# Altium schematic symbol library Components.SchLib: 10 symbols
Pins are listed as number, name and electrical type; pins without a type are passive.

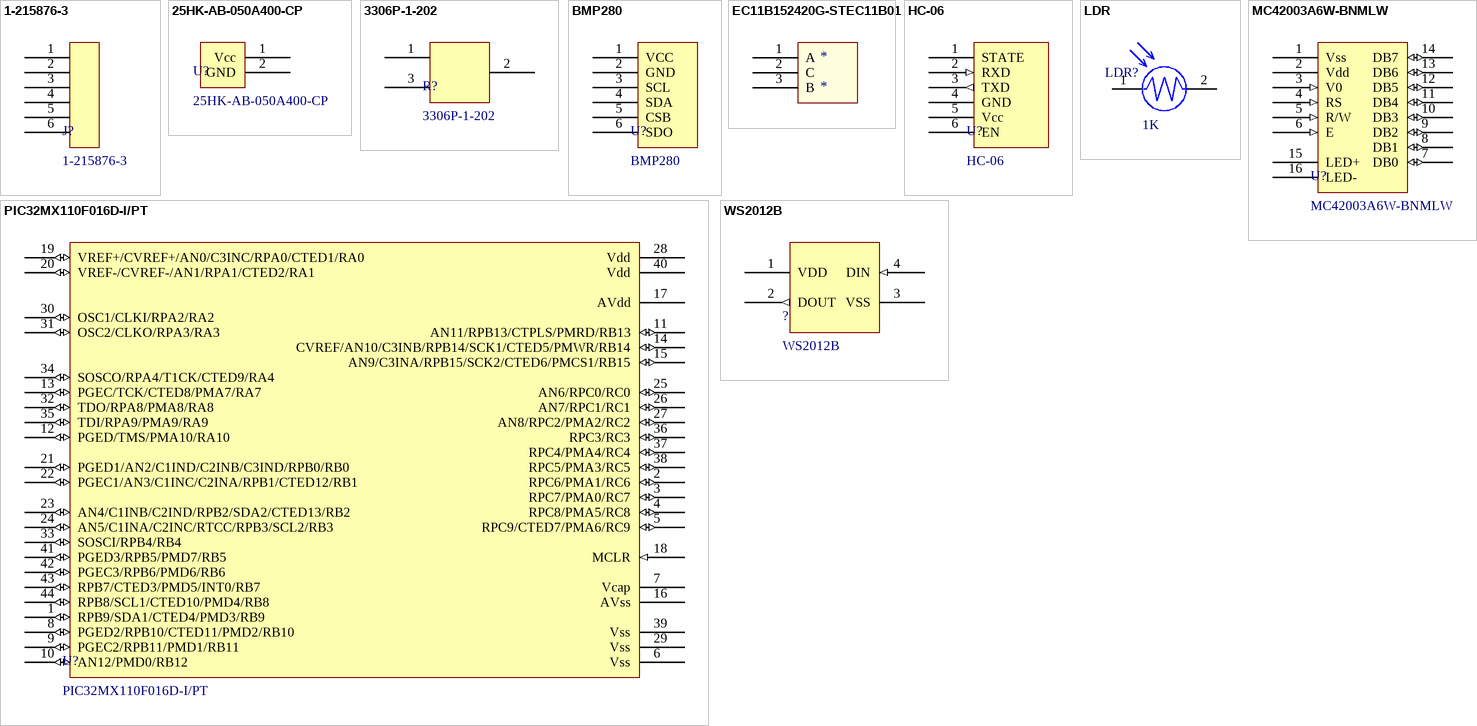
[diagram p0: symbols 1-215876-3 to WS2012B]

## 1-215876-3
designator J?
Tyco 1-215876-3
pins: 1, 2, 3, 4, 5, 6

## 25HK-AB-050A400-CP
designator U?
Power adapter; RefFournisseur: 2334613; Fabricant: IDEAL POWER; Fournisseur: Farnell; RefFabricant: 25HK-AB-050A400-CP
pins: 1 Vcc (power), 2 GND (power)

## 3306P-1-202
designator R?
Trimpot
footprint 3306P-1-202
pins: 1 (power), 2 (power), 3 (power)

## BMP280
designator U?
Temp. sensor
pins: 1 VCC (power), 2 GND (power), 3 SCL (oc), 4 SDA (oc), 5 CSB (power), 6 SDO (power)

## EC11B152420G-STEC11B01
designator *
Rotary encoder
footprint EC11B152420G-STEC11B01
pins: 1 A, 2 C, 3 B

## HC-06
designator U?
Bluetooth
pins: 1 STATE, 2 RXD (in), 3 TXD (out), 4 GND (power), 5 Vcc (power), 6 EN

## LDR
designator LDR?  value 1K  (hidden comment: LDR)
Photoresistor
pins: 1 (power), 2 (power)

## MC42003A6W-BNMLW
designator U?
LCD
footprint MC42004A6W-BNMLW
pins: 1 Vss (power), 2 Vdd (power), 3 V0 (in), 4 RS (in), 5 R/W (in), 6 E (in), 7 DB0 (io), 8 DB1 (io), 9 DB2 (io), 10 DB3 (io), 11 DB4 (io), 12 DB5 (io), 13 DB6 (io), 14 DB7 (io), 15 LED+ (power), 16 LED- (power)

## PIC32MX110F016D-I/PT
designator U?
Microcontroller
pins: 1 RPB9/SDA1/CTED4/PMD3/RB9 (io), 2 RPC6/PMA1/RC6 (io), 3 RPC7/PMA0/RC7 (io), 4 RPC8/PMA5/RC8 (io), 5 RPC9/CTED7/PMA6/RC9 (io), 6 Vss (power), 7 Vcap (power), 8 PGED2/RPB10/CTED11/PMD2/RB10 (io), 9 PGEC2/RPB11/PMD1/RB11 (io), 10 AN12/PMD0/RB12 (io), 11 AN11/RPB13/CTPLS/PMRD/RB13 (io), 12 PGED/TMS/PMA10/RA10 (io), 13 PGEC/TCK/CTED8/PMA7/RA7 (io), 14 CVREF/AN10/C3INB/RPB14/SCK1/CTED5/PMWR/RB14 (io), 15 AN9/C3INA/RPB15/SCK2/CTED6/PMCS1/RB15 (io), 16 AVss (power), 17 AVdd (power), 18 MCLR (in), 19 VREF+/CVREF+/AN0/C3INC/RPA0/CTED1/RA0 (io), 20 VREF-/CVREF-/AN1/RPA1/CTED2/RA1 (io), 21 PGED1/AN2/C1IND/C2INB/C3IND/RPB0/RB0 (io), 22 PGEC1/AN3/C1INC/C2INA/RPB1/CTED12/RB1 (io), 23 AN4/C1INB/C2IND/RPB2/SDA2/CTED13/RB2 (io), 24 AN5/C1INA/C2INC/RTCC/RPB3/SCL2/RB3 (io), 25 AN6/RPC0/RC0 (io), 26 AN7/RPC1/RC1 (io), 27 AN8/RPC2/PMA2/RC2 (io), 28 Vdd (power), 29 Vss (power), 30 OSC1/CLKI/RPA2/RA2 (io), 31 OSC2/CLKO/RPA3/RA3 (io), 32 TDO/RPA8/PMA8/RA8 (io), 33 SOSCI/RPB4/RB4 (io), 34 SOSCO/RPA4/T1CK/CTED9/RA4 (io), 35 TDI/RPA9/PMA9/RA9 (io), 36 RPC3/RC3 (io), 37 RPC4/PMA4/RC4 (io), 38 RPC5/PMA3/RC5 (io), 39 Vss (power), 40 Vdd (power), 41 PGED3/RPB5/PMD7/RB5 (io), 42 PGEC3/RPB6/PMD6/RB6 (io), 43 RPB7/CTED3/PMD5/INT0/RB7 (io), 44 RPB8/SCL1/CTED10/PMD4/RB8 (io)

## WS2012B
designator ?
Neopixel
footprint WS2812b
pins: 1 VDD (power), 2 DOUT (out), 3 VSS (power), 4 DIN (in)